# EAGLE library part NODEMCU (library esp8266)
Placa NodeMCU
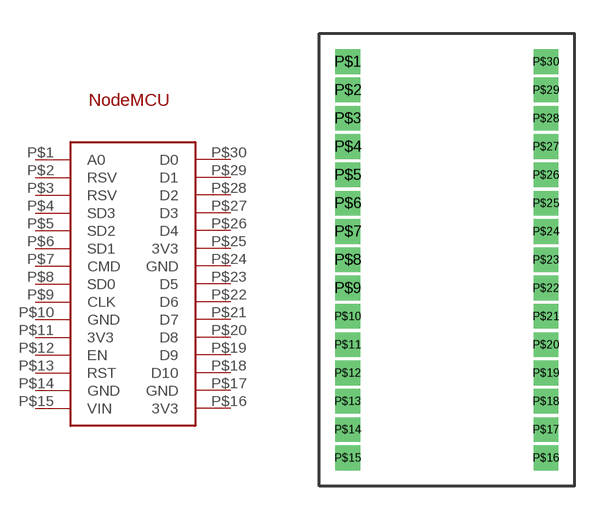
[diagram p0: symbol with the pads of NODEMCU; footprint NODEMCU]

Designator prefix IC

## NODEMCU  [NODEMCU]
P$1  A0
P$2  RSV
P$3  RSV
P$4  SD3
P$5  SD2
P$6  SD1
P$7  CMD
P$8  SD0
P$9  CLK
P$10  GND
P$11  3V3
P$12  EN
P$13  RST
P$14  GND
P$15  VIN
P$16  3V3
P$17  GND
P$18  D10
P$19  D9
P$20  D8
P$21  D7
P$22  D6
P$23  D5
P$24  GND
P$25  3V3
P$26  D4
P$27  D3
P$28  D2
P$29  D1
P$30  D0

## Footprint NODEMCU (pad centres in mm)
drill 0.6 square: P$1 0,1.27; P$2 0,0; P$3 0,-1.27; P$4 0,-2.54; P$5 0,-3.81; P$6 0,-5.08; P$7 0,-6.35; P$8 0,-7.62; P$9 0,-8.89; P$10 0,-10.16; P$11 0,-11.43; P$12 0,-12.7; P$13 0,-13.97; P$14 0,-15.24; P$15 0,-16.51; P$16 8.89,-16.51; P$17 8.89,-15.24; P$18 8.89,-13.97; P$19 8.89,-12.7; P$20 8.89,-11.43; P$21 8.89,-10.16; P$22 8.89,-8.89; P$23 8.89,-7.62; P$24 8.89,-6.35; P$25 8.89,-5.08; P$26 8.89,-3.81; P$27 8.89,-2.54; P$28 8.89,-1.27; P$29 8.89,0; P$30 8.89,1.27